# Altium schematic symbol library SCH - ARM CORTEX - STM STM8AF6223Px.SchLib: 1 symbol
Pins are listed as number, name and electrical type; pins without a type are passive.

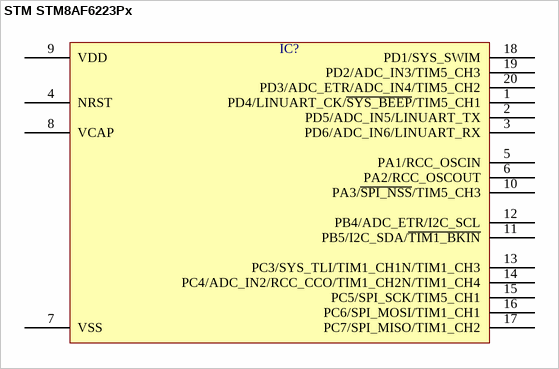
[diagram p0: symbol STM STM8AF6223Px]

## STM STM8AF6223Px
designator IC?  (value not drawn)
pins: 1 PD4/LINUART_CK/~{SYS_BEEP}/TIM5_CH1, 2 PD5/ADC_IN5/LINUART_TX, 3 PD6/ADC_IN6/LINUART_RX, 4 NRST, 5 PA1/RCC_OSCIN, 6 PA2/RCC_OSCOUT, 7 VSS, 8 VCAP, 9 VDD, 10 PA3/~{SPI_NSS}/TIM5_CH3, 11 PB5/I2C_SDA/~{TIM1_BKIN}, 12 PB4/ADC_ETR/I2C_SCL, 13 PC3/SYS_TLI/TIM1_CH1N/TIM1_CH3, 14 PC4/ADC_IN2/RCC_CCO/TIM1_CH2N/TIM1_CH4, 15 PC5/SPI_SCK/TIM5_CH1, 16 PC6/SPI_MOSI/TIM1_CH1, 17 PC7/SPI_MISO/TIM1_CH2, 18 PD1/SYS_SWIM, 19 PD2/ADC_IN3/TIM5_CH3, 20 PD3/ADC_ETR/ADC_IN4/TIM5_CH2